# EAGLE library part TSC2007I (library GTA04b7)
Touch screen controller with I2C Note: real package is smaller
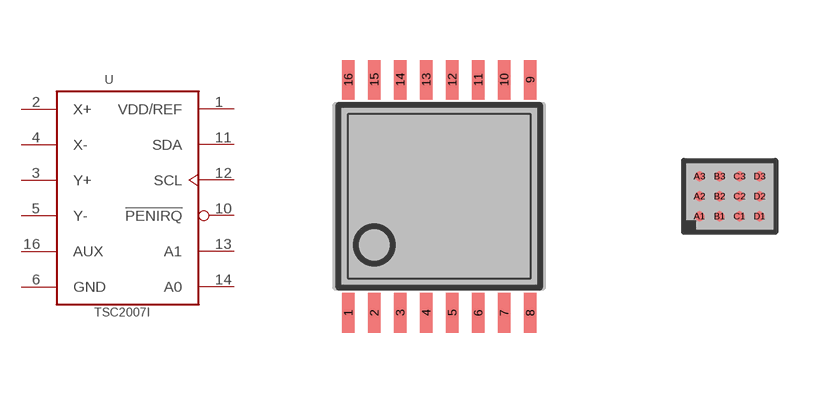
[diagram p52: symbol with the pads of TSSOP16; footprints TSSOP16, R-XBGA-N12-0.5]

Designator prefix -

## TSC2007IPW  [TSSOP16]
1  VDD/REF
2  X+
3  Y+
4  X-
5  Y-
6  GND  pwr
10  !PENIRQ  out
11  SDA
12  SCL
13  A1  in
14  A0  in
16  AUX  in

## TSC2007IYZG  [R-XBGA-N12-0.5]
A1  AUX  in
A2  VDD/REF
A3  X+
B1  !PENIRQ  out
B2  A0  in
B3  Y+
C1  SDA
C2  A1  in
C3  X-
D1  SCL
D2  GND  pwr
D3  Y-

## Footprint TSSOP16 (pad centres in mm)
Thin Shrink Small Outline Plastic 16 MAX3223-MAX3243.pdf
smd 0.305 x 0.991: 1 -2.275,-2.918; 2 -1.625,-2.918; 3 -0.975,-2.918; 4 -0.325,-2.918; 5 0.325,-2.918; 6 0.975,-2.918; 7 1.625,-2.918; 8 2.275,-2.918; 9 2.275,2.918; 10 1.625,2.918; 11 0.975,2.918; 12 0.325,2.918; 13 -0.325,2.918; 14 -0.975,2.918; 15 -1.625,2.918; 16 -2.275,2.918

## Footprint R-XBGA-N12-0.5 (pad centres in mm)
TI YZG (0.5mm pitch)
smd 0.25 x 0.25: A1 -0.75,-0.5; A2 -0.75,0; A3 -0.75,0.5; B1 -0.25,-0.5; B2 -0.25,0; B3 -0.25,0.5; C1 0.25,-0.5; C2 0.25,0; C3 0.25,0.5; D1 0.75,-0.5; D2 0.75,0; D3 0.75,0.5